# EAGLE library part 1PEEK14_S (library con-odu_med)
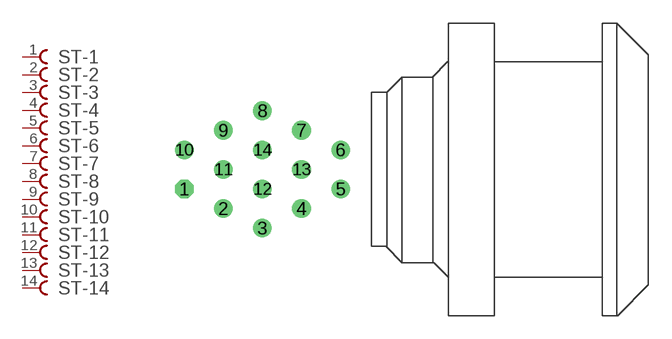
[diagram p6: symbol with the pads of 1PEEK14_S; footprint 1PEEK14_S]

Designator prefix ST; gates -1=KONTAKT -2=KONTAKT -3=KONTAKT -4=KONTAKT -5=KONTAKT -6=KONTAKT -7=KONTAKT -8=KONTAKT -9=KONTAKT -10=KONTAKT -11=KONTAKT -12=KONTAKT -13=KONTAKT -14=KONTAKT

## 1PEEK14_S  [1PEEK14_S]
1  -1:P$1  pas
2  -2:P$1  pas
3  -3:P$1  pas
4  -4:P$1  pas
5  -5:P$1  pas
6  -6:P$1  pas
7  -7:P$1  pas
8  -8:P$1  pas
9  -9:P$1  pas
10  -10:P$1  pas
11  -11:P$1  pas
12  -12:P$1  pas
13  -13:P$1  pas
14  -14:P$1  pas

## Footprint 1PEEK14_S (pad centres in mm)
drill 0.7 octagon: 1 -10.16,-1.27
drill 0.7: 2 -7.62,-2.54; 3 -5.08,-3.81; 4 -2.54,-2.54; 5 0,-1.27; 6 0,1.27; 7 -2.54,2.54; 8 -5.08,3.81; 9 -7.62,2.54; 10 -10.16,1.27; 11 -7.62,0; 12 -5.08,-1.27; 13 -2.54,0; 14 -5.08,1.27